# Altium schematic symbol library Board_SN.SCHLIB: 63 symbols
Pins are listed as number, name and electrical type; pins without a type are passive.

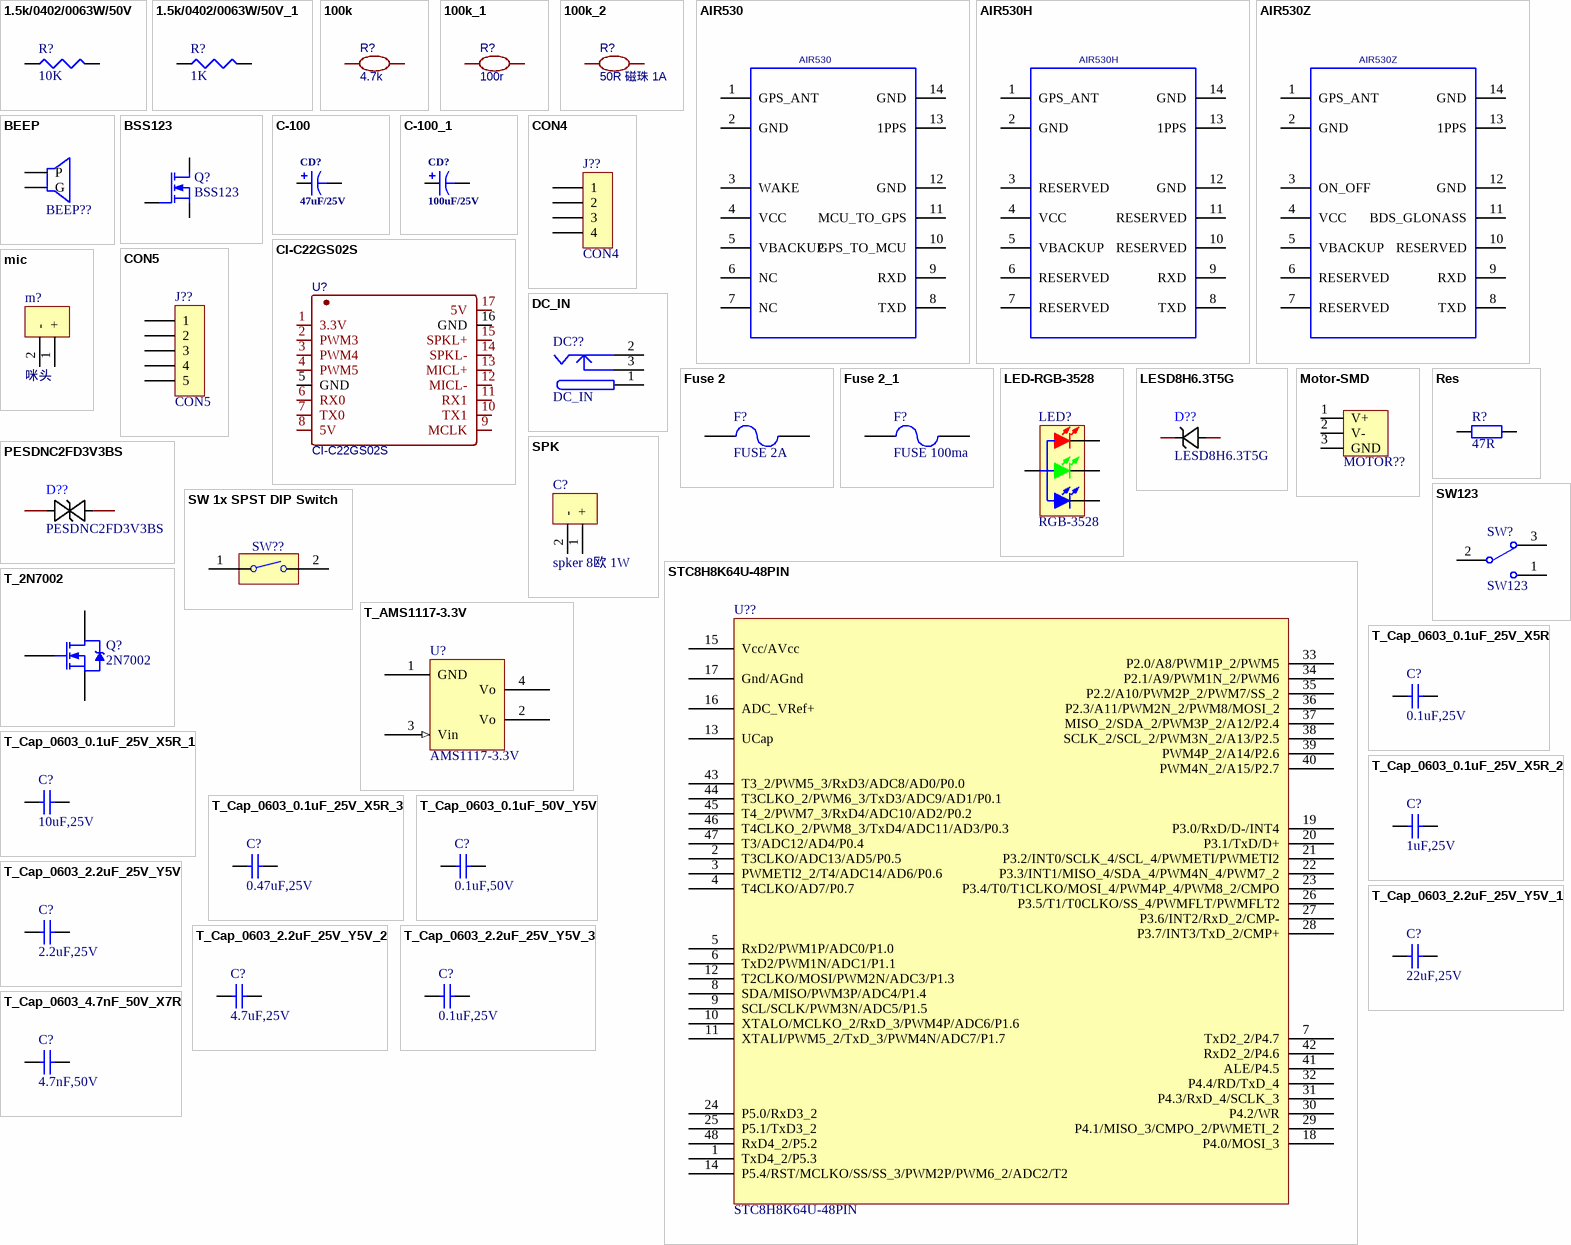
[diagram p0: symbols 1.5k/0402/0063W/50V to T_Cap_0603_4.7nF_50V_X7R]

## 1.5k/0402/0063W/50V
designator R?, comment 10K
Resistor, 1.5k, 0.1%, 0.0625W, 50V, 100PPM, 0402; Brand: VISHAY DRALORIC; Brand Number: CRCW04021K50FKED; Case Style: 0402; Power Rating: 0.063W; Order Code Supplier: 2121624; Price: 0,0054; Resistance: 1.5k; Supplier: Farnell; Temperature Coefficient: ± 100PPM; Temperature Range: -55°C to +125°C; Voltage Rating: 50V
footprint 0603_R
pins: 1, 2

## 1.5k/0402/0063W/50V_1
designator R?, comment 1K
Resistor, 1.5k, 0.1%, 0.0625W, 50V, 100PPM, 0402; Brand: VISHAY DRALORIC; Brand Number: CRCW04021K50FKED; Case Style: 0402; Power Rating: 0.063W; Order Code Supplier: 2121624; Price: 0,0054; Resistance: 1.5k; Supplier: Farnell; Temperature Coefficient: ± 100PPM; Temperature Range: -55°C to +125°C; Voltage Rating: 50V
footprint 0603_R
pins: 1, 2

## 100k
designator R?, comment 4.7k
nameAlias: Value(Ω); Contributor: LCEDA_Lib; spicePre: R; spiceSymbolName: R_0603_EU
footprint R0603 NSK
footprint 0402_R
pins: 1, 2

## 100k_1
designator R?, comment 100r
nameAlias: Value(Ω); Contributor: LCEDA_Lib; spicePre: R; spiceSymbolName: R_0603_EU
footprint R0603 NSK
footprint 0402_R
pins: 1, 2

## 100k_2
designator R?, comment 50R 磁珠 1A
nameAlias: Value(Ω); Contributor: LCEDA_Lib; spicePre: R; spiceSymbolName: R_0603_EU
footprint R0603 NSK
footprint 0402_R
pins: 1, 2

## AIR530
designator U?
GPS/Beidou/GLONASS module;9.9*12.9*2.3mm; Manufacture: Luat; Geometry.Height: 2.3MM; Manufacture P/N: Air530; PCB DECAL: AIR530
footprint AIR530
pins: 1 GPS_ANT, 2 GND, 3 WAKE, 4 VCC, 5 VBACKUP, 6 NC, 7 NC, 8 TXD, 9 RXD, 10 GPS_TO_MCU, 11 MCU_TO_GPS, 12 GND, 13 1PPS, 14 GND

## AIR530H
designator U?
GPS/Beidou/GLONASS module;9.9*12.9*2.3mm; Manufacture: Luat; Geometry.Height: 2.3 MM; PCB DECAL: AIR530; Manufacturer P/N: Air530H
footprint AIR530
pins: 1 GPS_ANT, 2 GND, 3 RESERVED, 4 VCC, 5 VBACKUP, 6 RESERVED, 7 RESERVED, 8 TXD, 9 RXD, 10 RESERVED, 11 RESERVED, 12 GND, 13 1PPS, 14 GND

## AIR530Z
designator U?
GPS/Beidou/GLONASS module;9.9*12.9*2.3mm; Manufacture: Luat; Geometry.Height: 2.3mm; PCB DECAL: AIR530; Manufacturer P/N: Air530Z
footprint AIR530
pins: 1 GPS_ANT, 2 GND, 3 ON_OFF, 4 VCC, 5 VBACKUP, 6 RESERVED, 7 RESERVED, 8 TXD, 9 RXD, 10 RESERVED, 11 BDS_GLONASS, 12 GND, 13 1PPS, 14 GND

## BEEP
designator BEEP??  (value not drawn)
3.3V有源蜂鸣器
footprint BEEP
pins: 1 P, 2 G

## BSS123
designator Q?
Mosfet, N-channel, Vds:100V, Id:0.15A, Vgs-th:2.8V, Rds-on:3.5ohm; Brand: NXP; Case Style: SOT-23; Drain Current: 0.15A; Drain Source Voltage: 100V; Gate Source Voltage: 20V; On Resistance: 3.5ohm; Threshold Voltage: 2.8V; Brand Number: BSS123; Order Code Supplier: 1510764; Price: 0,082; Supplier: Farnell; Temperature Range: -55°C to +150°C; Transistor Polarity: N-channel
footprint SOT-23
pins: D 3, G 1, S 2

## C-100
designator CD?, comment 47uF/25V
钽电容,Tantalum Capacitors,47uF/16V,3.5*2.8; Published: 8-Jun-2000; LatestRevisionDate: 17-Jul-2002; LatestRevisionNote: Re-released for DXP Platform.; PackageReference: POLAR0.8; Publisher: Altium Limited
footprint CD7343 (Capacitor, SM Tantalum; Body 7.3 x 4.3 mm (LxW typ))
pins: 1, 2
1 alternate drawing of the same symbol

## C-100_1
designator CD?, comment 100uF/25V
钽电容,Tantalum Capacitors,47uF/16V,3.5*2.8; Published: 8-Jun-2000; LatestRevisionDate: 17-Jul-2002; LatestRevisionNote: Re-released for DXP Platform.; PackageReference: POLAR0.8; Publisher: Altium Limited
footprint CD7343 (Capacitor, SM Tantalum; Body 7.3 x 4.3 mm (LxW typ))
pins: 1, 2
1 alternate drawing of the same symbol

## CI-C22GS02S
designator U?
BOM_Manufacturer: Chiplntelli(启英泰伦); Contributor: LCSC; BOM_Supplier: LCSC; BOM_Supplier Part: C2759836; BOM_Manufacturer Part: CI-C22GS02S; BOM_JLCPCB Part Class: Extended Part; spicePre: U; spiceSymbolName: CI-C22GS02S
footprint SMD-17_L20.0-W1.80-CI-C22GS02S
pins: 1 3.3V, 2 PWM3, 3 PWM4, 4 PWM5, 5 GND, 6 RX0, 7 TX0, 8 5V, 9 MCLK, 10 TX1, 11 RX1, 12 MICL-, 13 MICL+, 14 SPKL-, 15 SPKL+, 16 GND, 17 5V

## CON4
designator J??
Connector
pins: 1, 2, 3, 4

## CON5
designator J??
Connector
pins: 1, 2, 3, 4, 5

## DC_IN
designator DC??
DC插座; Supplier: *; SupplierPartNumber: *
footprint PJ-058A (CONN PWR JACK 2X5.5MM SOLDER  CUI inc)
pins: 1, 2, 3

## Fuse 2
designator F?, comment FUSE 2A
Fuse; Published: 8-Jun-2000; LatestRevisionDate: 17-Jul-2002; LatestRevisionNote: Re-released for DXP Platform.; PackageReference: PIN-W2/E2.8; Publisher: Altium Limited
simulation model FUSE (Spice Subcircuit)
footprint 1206_FUSE
pins: 1, 2

## Fuse 2_1
designator F?, comment FUSE 100ma
Fuse; Published: 8-Jun-2000; LatestRevisionDate: 17-Jul-2002; LatestRevisionNote: Re-released for DXP Platform.; PackageReference: PIN-W2/E2.8; Publisher: Altium Limited
simulation model FUSE (Spice Subcircuit)
footprint 1206_FUSE
pins: 1, 2

## LED-RGB-3528
designator LED?, comment RGB-3528
三基色LED; 版权归属: 源创客; BOM名称: 三基色LED; 学习资源: www.ooocke.com
footprint LED 3528-4Pin (4脚，3528LED)
footprint LED-TH_4P-BD6.9-P1.27-R
pins: 1 RED_K, 2 A, 3 GREEN_K, 4 BULE_K

## LESD8H6.3T5G
designator D??
Manufacturer: LRC(乐山无线电); Add into BOM: yes; Polarity: 单向; Reverse Stand-Off Voltage (Vrwm): 6.3V; Breakdown Voltage: 7V; Peak Pulse Current (Ipp)@10/1000μs: 21A@8/20us; Maximum Clamping Voltage: 11V; Name: LESD8H6.3T5G; Symbol: LESD8H6.3T5G; Device: LESD8H6.3T5G; LCSC Part Name: 单向 Vrwm:6.3V; Supplier Part: C383220; Manufacturer Part: LESD8H6.3T5G; Supplier Footprint: SOD-882; JLCPCB Part Class: Extended Part; Datasheet: https://atta.szlcsc.com/upload/public/pdf/source/20200318/C383220_68B8019F200972B4456FCD3E4DB778A0.pdf; Supplier: LCSC; Convert to PCB: yes
footprint SOD-882_L1.0-W0.6-R-RD
pins: 1 A, 2 K

## mic
designator m?, comment 咪头
footprint MIC-TH_BD6.0-P1.90-D0.4-L-RD
pins: 1 +, 2 -

## Motor-SMD
designator MOTOR??  (value not drawn)
电机,SMD
footprint MOTOR-SMD
pins: 1 V+, 2 V-, 3 GND

## PESDNC2FD3V3BS
designator D??
Manufacturer: LRC(乐山无线电); Name: LESD8H6.3T5G; Add into BOM: yes; Polarity: 单向; Reverse Stand-Off Voltage (Vrwm): 6.3V; Breakdown Voltage: 7V; Peak Pulse Current (Ipp)@10/1000μs: 21A@8/20us; Maximum Clamping Voltage: 11V; Symbol: LESD8H6.3T5G; Device: LESD8H6.3T5G; LCSC Part Name: 单向 Vrwm:6.3V; Supplier Part: C383220; Manufacturer Part: LESD8H6.3T5G; Supplier Footprint: SOD-882; JLCPCB Part Class: Extended Part; Datasheet: https://atta.szlcsc.com/upload/public/pdf/source/20200318/C383220_68B8019F200972B4456FCD3E4DB778A0.pdf; Supplier: LCSC; Convert to PCB: yes
footprint DFN1006-2L-BI
pins: 1 A, 2 K

## Res
designator R?, comment 47R
footprint 0805R (贴片电阻，封装0805)
footprint AXIAL-0.5
footprint 0603_R
footprint 2512R (Chip Resistor, 2-Leads, Body 6.40x3.20mm, IPC Low Density)
pins: 1, 2

## SPK
designator C?, comment spker 8欧 1W
footprint XH2.54A-2
pins: 1 +, 2 -

## STC8H8K64U-48PIN
designator U??
footprint QFN48(6X6mm)
pins: 1 TxD4_2/P5.3, 2 T3CLKO/ADC13/AD5/P0.5, 3 PWMETI2_2/T4/ADC14/AD6/P0.6, 4 T4CLKO/AD7/P0.7, 5 RxD2/PWM1P/ADC0/P1.0, 6 TxD2/PWM1N/ADC1/P1.1, 7 TxD2_2/P4.7, 8 SDA/MISO/PWM3P/ADC4/P1.4, 9 SCL/SCLK/PWM3N/ADC5/P1.5, 10 XTALO/MCLKO_2/RxD_3/PWM4P/ADC6/P1.6, 11 XTALI/PWM5_2/TxD_3/PWM4N/ADC7/P1.7, 12 T2CLKO/MOSI/PWM2N/ADC3/P1.3, 13 UCap, 14 P5.4/RST/MCLKO/SS/SS_3/PWM2P/PWM6_2/ADC2/T2, 15 Vcc/AVcc, 16 ADC_VRef+, 17 Gnd/AGnd, 18 P4.0/MOSI_3, 19 P3.0/RxD/D-/INT4, 20 P3.1/TxD/D+, 21 P3.2/INT0/SCLK_4/SCL_4/PWMETI/PWMETI2, 22 P3.3/INT1/MISO_4/SDA_4/PWM4N_4/PWM7_2, 23 P3.4/T0/T1CLKO/MOSI_4/PWM4P_4/PWM8_2/CMPO, 24 P5.0/RxD3_2, 25 P5.1/TxD3_2, 26 P3.5/T1/T0CLKO/SS_4/PWMFLT/PWMFLT2, 27 P3.6/INT2/RxD_2/CMP-, 28 P3.7/INT3/TxD_2/CMP+, 29 P4.1/MISO_3/CMPO_2/PWMETI_2, 30 P4.2/WR, 31 P4.3/RxD_4/SCLK_3, 32 P4.4/RD/TxD_4, 33 P2.0/A8/PWM1P_2/PWM5, 34 P2.1/A9/PWM1N_2/PWM6, 35 P2.2/A10/PWM2P_2/PWM7/SS_2, 36 P2.3/A11/PWM2N_2/PWM8/MOSI_2, 37 MISO_2/SDA_2/PWM3P_2/A12/P2.4, 38 SCLK_2/SCL_2/PWM3N_2/A13/P2.5, 39 PWM4P_2/A14/P2.6, 40 PWM4N_2/A15/P2.7, 41 ALE/P4.5, 42 RxD2_2/P4.6, 43 T3_2/PWM5_3/RxD3/ADC8/AD0/P0.0, 44 T3CLKO_2/PWM6_3/TxD3/ADC9/AD1/P0.1, 45 T4_2/PWM7_3/RxD4/ADC10/AD2/P0.2, 46 T4CLKO_2/PWM8_3/TxD4/ADC11/AD3/P0.3, 47 T3/ADC12/AD4/P0.4, 48 RxD4_2/P5.2

## SW123
designator SW?
C319011
footprint SW123 (Footprint not found)
footprint SW1-2-3X2 (Footprint not found)
footprint SW-TH_SS-12D10L9
pins: 1, 2, 3

## SW 1x SPST DIP Switch
designator SW??
1 Ways SPST DIP Switch
pins: 1, 2

## T_2N7002
designator Q?  value 2N7002
Part Number: T_2N7002; Solder: SMD; Vds: 60 V; Id: 0.115 A; Rds: 1.1 Ohms; Schematic Path: X:\Database\Schematic Library.Schlib; LibRef: T_2N7002; ComponentLink2Description: Datasheet
footprint SOT-23!!!
pins: 1 G, 2 D, 3 S

## T_AMS1117-3.3V
designator U?  value AMS1117-3.3V
电源芯片; Part Number: T_AMS1117-3.3V; Solder: SMD; Schematic Path: X:\Database\Schematic Library.Schlib; LibRef: T_AMS1117-3.3V; ComponentLink2Description: Datasheet; ComponentLink2URL: X:\Database\Datasheet\AMS1117.pdf
footprint SOT223 (SOT223, 4-Leads, Body 6.50x7.00mm (avg), Pitch 2.30mm, IPC Low Density)
pins: 1 GND, 2 Vo, 3 Vin (in), 4 Vo

## T_Cap_0603_0.1uF_25V_X5R
designator C?  value 0.1uF,25V
贴片电容; Part Number: T_Cap_0603_0.1uF_25V_X5R; Part Typer: X5R; Solder: SMD; Withstand Voltage: 25V; Tolerance: 10%; Schematic Path: X:\Database\Schematic Library.Schlib; LibRef: T_Cap_0603_0.1uF_25V_X5R
footprint 0603_C
pins: 1, 2

## T_Cap_0603_0.1uF_25V_X5R_1
designator C?  value 10uF,25V
贴片电容; Part Number: T_Cap_0603_0.1uF_25V_X5R; Part Typer: X5R; Solder: SMD; Withstand Voltage: 25V; Tolerance: 10%; Schematic Path: X:\Database\Schematic Library.Schlib; LibRef: T_Cap_0603_0.1uF_25V_X5R
footprint 0603_C
footprint 0402_C
pins: 1, 2

## T_Cap_0603_0.1uF_25V_X5R_2
designator C?  value 1uF,25V
贴片电容; Part Number: T_Cap_0603_0.1uF_25V_X5R; Part Typer: X5R; Solder: SMD; Withstand Voltage: 25V; Tolerance: 10%; Schematic Path: X:\Database\Schematic Library.Schlib; LibRef: T_Cap_0603_0.1uF_25V_X5R
footprint 0603_C
footprint 0402_C
pins: 1, 2

## T_Cap_0603_0.1uF_25V_X5R_3
designator C?  value 0.47uF,25V
贴片电容; Part Number: T_Cap_0603_0.1uF_25V_X5R; Part Typer: X5R; Solder: SMD; Withstand Voltage: 25V; Tolerance: 10%; Schematic Path: X:\Database\Schematic Library.Schlib; LibRef: T_Cap_0603_0.1uF_25V_X5R
footprint 0603_C
footprint 0402_C
pins: 1, 2

## T_Cap_0603_0.1uF_50V_Y5V
designator C?  value 0.1uF,50V
贴片电容; Part Number: T_Cap_0603_0.1uF_50V_Y5V; Part Typer: Y5V; Solder: SMD; Withstand Voltage: 50V; Tolerance: 20%; Schematic Path: X:\Database\Schematic Library.Schlib; LibRef: T_Cap_0603_0.1uF_50V_Y5V
footprint 0603_C
pins: 1, 2

## T_Cap_0603_2.2uF_25V_Y5V
designator C?  value 2.2uF,25V
贴片电容; Part Number: T_Cap_0603_2.2uF_25V_Y5V; Part Typer: Y5V; Solder: SMD; Withstand Voltage: 25V; Tolerance: 20%; Schematic Path: X:\Database\Schematic Library.Schlib; LibRef: T_Cap_0603_2.2uF_25V_Y5V
footprint 0603_C
pins: 1, 2

## T_Cap_0603_2.2uF_25V_Y5V_1
designator C?  value 22uF,25V
贴片电容; Part Number: T_Cap_0603_2.2uF_25V_Y5V; Part Typer: Y5V; Solder: SMD; Withstand Voltage: 25V; Tolerance: 20%; Schematic Path: X:\Database\Schematic Library.Schlib; LibRef: T_Cap_0603_2.2uF_25V_Y5V
footprint 0603_C
pins: 1, 2

## T_Cap_0603_2.2uF_25V_Y5V_2
designator C?  value 4.7uF,25V
贴片电容; Part Number: T_Cap_0603_2.2uF_25V_Y5V; Part Typer: Y5V; Solder: SMD; Withstand Voltage: 25V; Tolerance: 20%; Schematic Path: X:\Database\Schematic Library.Schlib; LibRef: T_Cap_0603_2.2uF_25V_Y5V
footprint 0603_C
pins: 1, 2

## T_Cap_0603_2.2uF_25V_Y5V_3
designator C?  value 0.1uF,25V
贴片电容; Part Number: T_Cap_0603_2.2uF_25V_Y5V; Part Typer: Y5V; Solder: SMD; Withstand Voltage: 25V; Tolerance: 20%; Schematic Path: X:\Database\Schematic Library.Schlib; LibRef: T_Cap_0603_2.2uF_25V_Y5V
footprint 0603_C
pins: 1, 2

## T_Cap_0603_4.7nF_50V_X7R
designator C?  value 4.7nF,50V
贴片电容; Part Number: T_Cap_0603_4.7nF_50V_X7R; Part Typer: X7R; Solder: SMD; Withstand Voltage: 50V; Tolerance: 10%; Schematic Path: X:\Database\Schematic Library.Schlib; LibRef: T_Cap_0603_4.7nF_50V_X7R
footprint 0603_C
pins: 1, 2

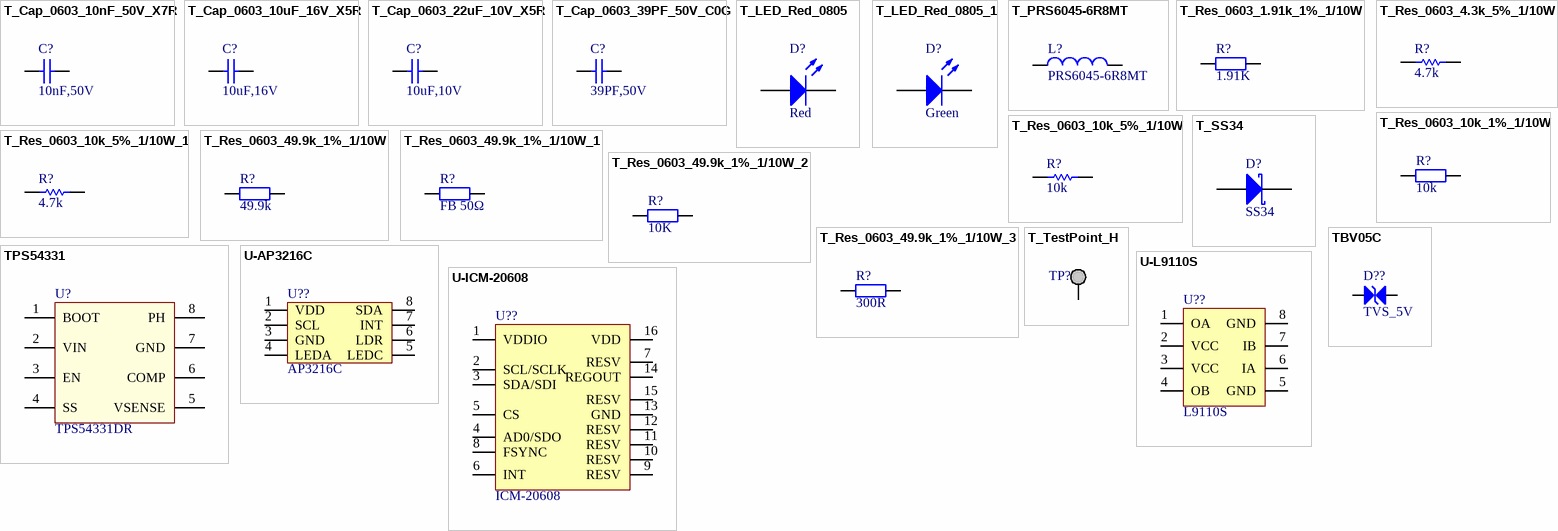
[diagram p1: symbols T_Cap_0603_10nF_50V_X7R to U-L9110S]

## T_Cap_0603_10nF_50V_X7R
designator C?  value 10nF,50V
贴片电容; Part Number: T_Cap_0603_10nF_50V_X7R; Part Typer: X7R; Solder: SMD; Withstand Voltage: 50V; Tolerance: 10%; Schematic Path: X:\Database\Schematic Library.Schlib; LibRef: T_Cap_0603_10nF_50V_X7R
footprint 0603_C
pins: 1, 2

## T_Cap_0603_10uF_16V_X5R
designator C?  value 10uF,16V
贴片电容; Part Number: T_Cap_0603_10uF_16V_X5R; Part Typer: X5R; Solder: SMD; Withstand Voltage: 16V; Tolerance: 10%; Schematic Path: X:\Database\Schematic Library.Schlib; LibRef: T_Cap_0603_10uF_16V_X5R
footprint 0603_C
pins: 1, 2

## T_Cap_0603_22uF_10V_X5R
designator C?  value 10uF,10V
贴片电容; Part Number: T_Cap_0603_22uF_10V_X5R; Part Typer: X5R; Solder: SMD; Withstand Voltage: 10V; Tolerance: 20%; Schematic Path: X:\Database\Schematic Library.Schlib; LibRef: T_Cap_0603_22uF_10V_X5R
footprint 0603_C
pins: 1, 2

## T_Cap_0603_39PF_50V_C0G
designator C?  value 39PF,50V
贴片电容; Part Number: T_Cap_0603_39PF_50V_C0G; Part Typer: C0G; Solder: SMD; Withstand Voltage: 50V; Tolerance: 5%; Schematic Path: X:\Database\Schematic Library.Schlib; LibRef: T_Cap_0603_39PF_50V_C0G
footprint 0603_C
pins: 1, 2

## T_LED_Red_0805
designator D?  value Red
红色LED灯; Part Number: T_LED_Red_0805; Solder: SMD; Schematic Path: X:\Database\Schematic Library.Schlib; LibRef: T_LED_Red_0805
footprint 0603_LED
pins: 1 A, 2 K

## T_LED_Red_0805_1
designator D?  value Green
红色LED灯; Part Number: T_LED_Red_0805; Solder: SMD; Schematic Path: X:\Database\Schematic Library.Schlib; LibRef: T_LED_Red_0805
footprint 0603_LED
pins: 1 A, 2 K

## T_PRS6045-6R8MT
designator L?  value PRS6045-6R8MT
贴片电感; Part Number: T_PRS6045-6R8MT; Solder: SMD; Tolerance: 20%; Rated Current: 3.8A; Schematic Path: X:\Database\Schematic Library.Schlib; LibRef: T_PRS6045-6R8MT
footprint 6045_L
footprint IND-SMD_L5.8-W5.2
pins: 1, 2

## T_Res_0603_1.91k_1%_1/10W
designator R?  value 1.91K
贴片电阻; Part Number: T_Res_0603_1.91k_1%_1/10W; Solder: SMD; Power: 1/10W; Tolerance: 1%; Schematic Path: X:\Database\Schematic Library.Schlib; LibRef: T_Res_0603_1.91k_1%_1/10W
footprint 0603_R
pins: 1, 2

## T_Res_0603_4.3k_5%_1/10W
designator R?  value 4.7k
贴片电阻; Part Number: T_Res_0603_4.3k_5%_1/10W; Solder: SMD; Power: 1/10W; Tolerance: 5%; Schematic Path: X:\Database\Schematic Library.Schlib; LibRef: T_Res_0603_4.3k_5%_1/10W
footprint 0603_R
pins: 1, 2

## T_Res_0603_10k_1%_1/10W
designator R?  value 10k
贴片电阻; Part Number: T_Res_0603_10k_1%_1/10W; Solder: SMD; Power: 1/10W; Tolerance: 1%; Schematic Path: X:\Database\Schematic Library.Schlib; LibRef: T_Res_0603_10k_1%_1/10W
footprint 0603_R
pins: 1, 2

## T_Res_0603_10k_5%_1/10W
designator R?  value 10k
贴片电阻; Part Number: T_Res_0603_10k_5%_1/10W; Solder: SMD; Power: 1/10W; Tolerance: 5%; Schematic Path: X:\Database\Schematic Library.Schlib; LibRef: T_Res_0603_10k_5%_1/10W
footprint 0603_R
pins: 1, 2

## T_Res_0603_10k_5%_1/10W_1
designator R?  value 4.7k
贴片电阻; Part Number: T_Res_0603_10k_5%_1/10W; Solder: SMD; Power: 1/10W; Tolerance: 5%; Schematic Path: X:\Database\Schematic Library.Schlib; LibRef: T_Res_0603_10k_5%_1/10W
footprint 0603_R
pins: 1, 2

## T_Res_0603_49.9k_1%_1/10W
designator R?  value 49.9k
贴片电阻; Part Number: T_Res_0603_49.9k_1%_1/10W; Solder: SMD; Power: 1/10W; Tolerance: 1%; Schematic Path: X:\Database\Schematic Library.Schlib; LibRef: T_Res_0603_49.9k_1%_1/10W
footprint 0603_R
pins: 1, 2

## T_Res_0603_49.9k_1%_1/10W_1
designator R?  value FB 50Ω
贴片电阻; Part Number: T_Res_0603_49.9k_1%_1/10W; Solder: SMD; Power: 1/10W; Tolerance: 1%; Schematic Path: X:\Database\Schematic Library.Schlib; LibRef: T_Res_0603_49.9k_1%_1/10W
footprint 0603_R
pins: 1, 2

## T_Res_0603_49.9k_1%_1/10W_2
designator R?  value 10K
贴片电阻; Part Number: T_Res_0603_49.9k_1%_1/10W; Solder: SMD; Power: 1/10W; Tolerance: 1%; Schematic Path: X:\Database\Schematic Library.Schlib; LibRef: T_Res_0603_49.9k_1%_1/10W
footprint 0603_R
pins: 1, 2

## T_Res_0603_49.9k_1%_1/10W_3
designator R?  value 300R
贴片电阻; Part Number: T_Res_0603_49.9k_1%_1/10W; Solder: SMD; Power: 1/10W; Tolerance: 1%; Schematic Path: X:\Database\Schematic Library.Schlib; LibRef: T_Res_0603_49.9k_1%_1/10W
footprint 0603_R
pins: 1, 2

## T_SS34
designator D?  value SS34
肖特基二极管; Part Number: T_SS34; Solder: SMD; Schematic Path: X:\Database\Schematic Library.Schlib; LibRef: T_SS34
footprint DO-214AC (SMA)
pins: 1 A, 2 K

## T_TestPoint_H
designator TP?  (no BOM)
测试点_过孔; Part Number: T_TestPoint_H; Solder: DIP; Schematic Path: X:\Database\Schematic Library.Schlib; LibRef: T_TestPoint_H
footprint TP_H (测试点-过孔)
pins: 1

## TBV05C
designator D??, comment TVS_5V
TVS,ESD二极管
footprint SOD-323
pins: 1, 2

## TPS54331
designator U?, comment TPS54331DR
TI, 3A, 3.5-28V, Buck
footprint SOIC8E
footprint SOIC8 (SOIC, 8-Leads, Body 4.9x3.9mm, Pitch 1.27mm, IPC Low Density)
pins: 1 BOOT, 2 VIN, 3 EN, 4 SS, 5 VSENSE, 6 COMP, 7 GND, 8 PH

## U-AP3216C
designator U??, comment AP3216C
Sensor.光照/距离
footprint QFN-8-2.4*4.1
pins: 1 VDD, 2 SCL, 3 GND, 4 LEDA, 5 LEDC, 6 LDR, 7 INT, 8 SDA

## U-ICM-20608
designator U??, comment ICM-20608
三轴陀螺仪/三轴加速度计,
footprint LGA-16-3*3*0.75
pins: 1 VDDIO, 2 SCL/SCLK, 3 SDA/SDI, 4 AD0/SDO, 5 CS, 6 INT, 7 RESV, 8 FSYNC, 9 RESV, 10 RESV, 11 RESV, 12 RESV, 13 GND, 14 REGOUT, 15 RESV, 16 VDD

## U-L9110S
designator U??, comment L9110S
电机驱动,800mA
footprint SOP-8
pins: 1 OA, 2 VCC, 3 VCC, 4 OB, 5 GND, 6 IA, 7 IB, 8 GND